# Altium footprint library Pads.PcbLib: 4 footprints
Each footprint in its own frame and in the unit in brackets; x right, y up, seen from the top. Pads: shape width x height; smd on the part's side, far side on the other; paste and mask are expansions set on the pad; w line width, h text height; cw(c..) or ccw(c..) is an arc to the next point about the centre after c.
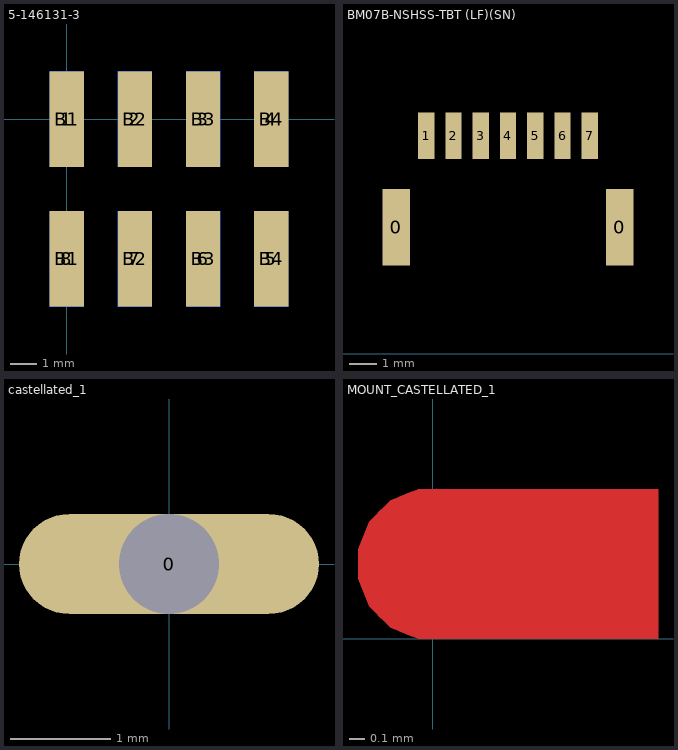
[diagram p0: the footprints below, top view; thin cyan lines are the x and y axes]

## 5-146131-3 [mm]
pads (16):
  rect 1.27x3.56 smd: 1(0,0) 2(2.54,0) 3(5.08,0) 4(7.62,0) 5(7.62,-5.21) 6(5.08,-5.21) 7(2.54,-5.21) 8(0,-5.21)
  rect 1.27x3.56 smd far side: B1(0,-5.21) B1(0,0) B2(2.54,-5.21) B2(2.54,0) B3(5.08,-5.21) B3(5.08,0) B4(7.62,-5.21) B4(7.62,0)

## BM07B-NSHSS-TBT (LF)(SN) [mm]
pads (9):
  rect 1x2.8 smd paste-2.54 mask+0.1: 0(-14.1,4.65) 0(-5.9,4.65)
  rect 0.6x1.7 smd paste-2.54 mask+0.1: 1(-13,8) 2(-12,8) 3(-11,8) 4(-10,8) 5(-9,8) 6(-8,8) 7(-7,8)
3D body "(Unsaved).step": height 6, standoff 0, extent -14.5,3.3 -5.5,8.25

## castellated_1 [mm]
pads (1):
  oval 3x1 hole 1: 0(0,0)

## MOUNT_CASTELLATED_1 [mm]
Top Layer:
  circle w0: c0,0.5 r0.5
  region: 0,1 1.5,1 1.5,0 0,0
  region: 0,0 -0.099,0 -0.283,0.076 -0.424,0.217 -0.5,0.401 -0.5,0.5 -0.5,0.599 -0.424,0.783 -0.283,0.924 -0.099,1 0,1 0.099,1 0.283,0.924 0.424,0.783 0.5,0.599 0.5,0.5 0.5,0.401 0.424,0.217 0.283,0.076 0.099,0